# Altium schematic symbol library ESDAxxSC6.SchLib: 1 symbol
Pins are listed as number, name and electrical type; pins without a type are passive.

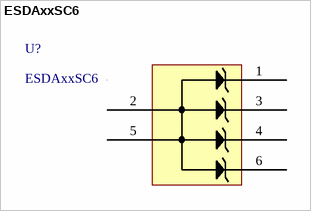
[diagram p0: symbol ESDAxxSC6]

## ESDAxxSC6
designator U?
pins: 1, 2, 3, 4, 5, 6